# Altium schematic symbol library Switch,Slide,DPDT,SMD.Schlib: 1 symbol
Pins are listed as number, name and electrical type; pins without a type are passive.

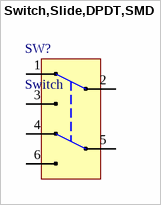
[diagram p0: symbol Switch,Slide,DPDT,SMD]

## Switch,Slide,DPDT,SMD
designator SW?, comment Switch
Slide Switch DPDT Surface Mount
pins: 1, 2, 3, 4, 5, 6